# EAGLE library part I2CFRAM (library I2CFRAM)
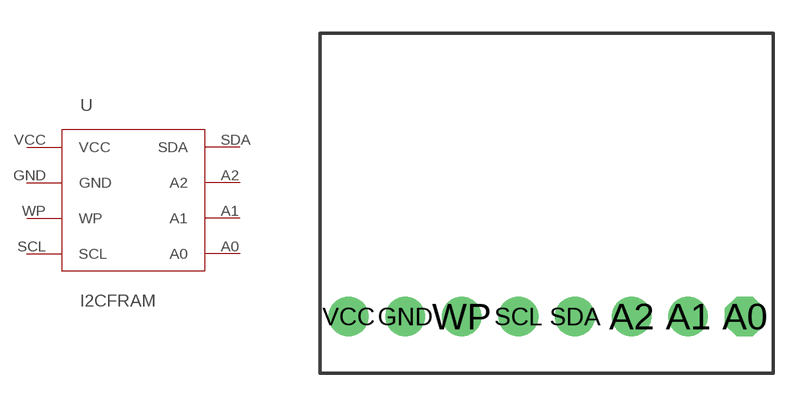
[diagram p0: symbol with the pads of I2CFRAM; footprint I2CFRAM]

Designator prefix -

## I2CFRAM  [I2CFRAM]
A0  A0
A1  A1
A2  A2
GND  GND
SCL  SCL
SDA  SDA
VCC  VCC
WP  WP

## Footprint I2CFRAM (pad centres in mm)
drill 1 pad 1.778 octagon: A0 19.05,2.54
drill 1 pad 1.778: A1 16.51,2.54; A2 13.97,2.54; GND 3.81,2.54; SCL 8.89,2.54; SDA 11.43,2.54; VCC 1.27,2.54; WP 6.35,2.54